# EAGLE library part VCO (library AP_VCO)
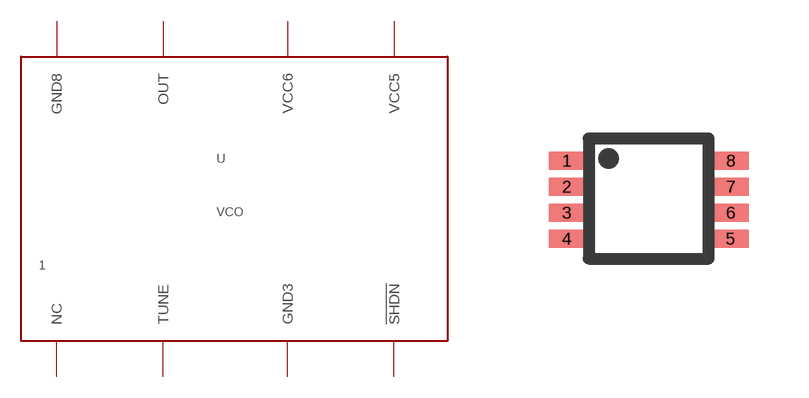
[diagram p0: symbol with the pads of VCO; footprint VCO]

Designator prefix -

## VCOVCO  [VCO]
1  NC
2  TUNE
3  GND3
4  !SHDN
5  VCC5
6  VCC6
7  OUT
8  GND8

## Footprint VCO (pad centres in mm)
smd 0.9 x 0.45: 1 -2.05,0.95; 2 -2.05,0.3; 3 -2.05,-0.35; 4 -2.05,-1; 5 2.05,-1; 6 2.05,-0.35; 7 2.05,0.3; 8 2.05,0.95